# Altium footprint library Miscellaneous Devices LC.PcbLib: 559 footprints (part 10 of 35)
Each footprint in its own frame and in the unit in brackets; x right, y up, seen from the top. Pads: shape width x height; smd on the part's side, far side on the other; paste and mask are expansions set on the pad; w line width, h text height; cw(c..) or ccw(c..) is an arc to the next point about the centre after c.
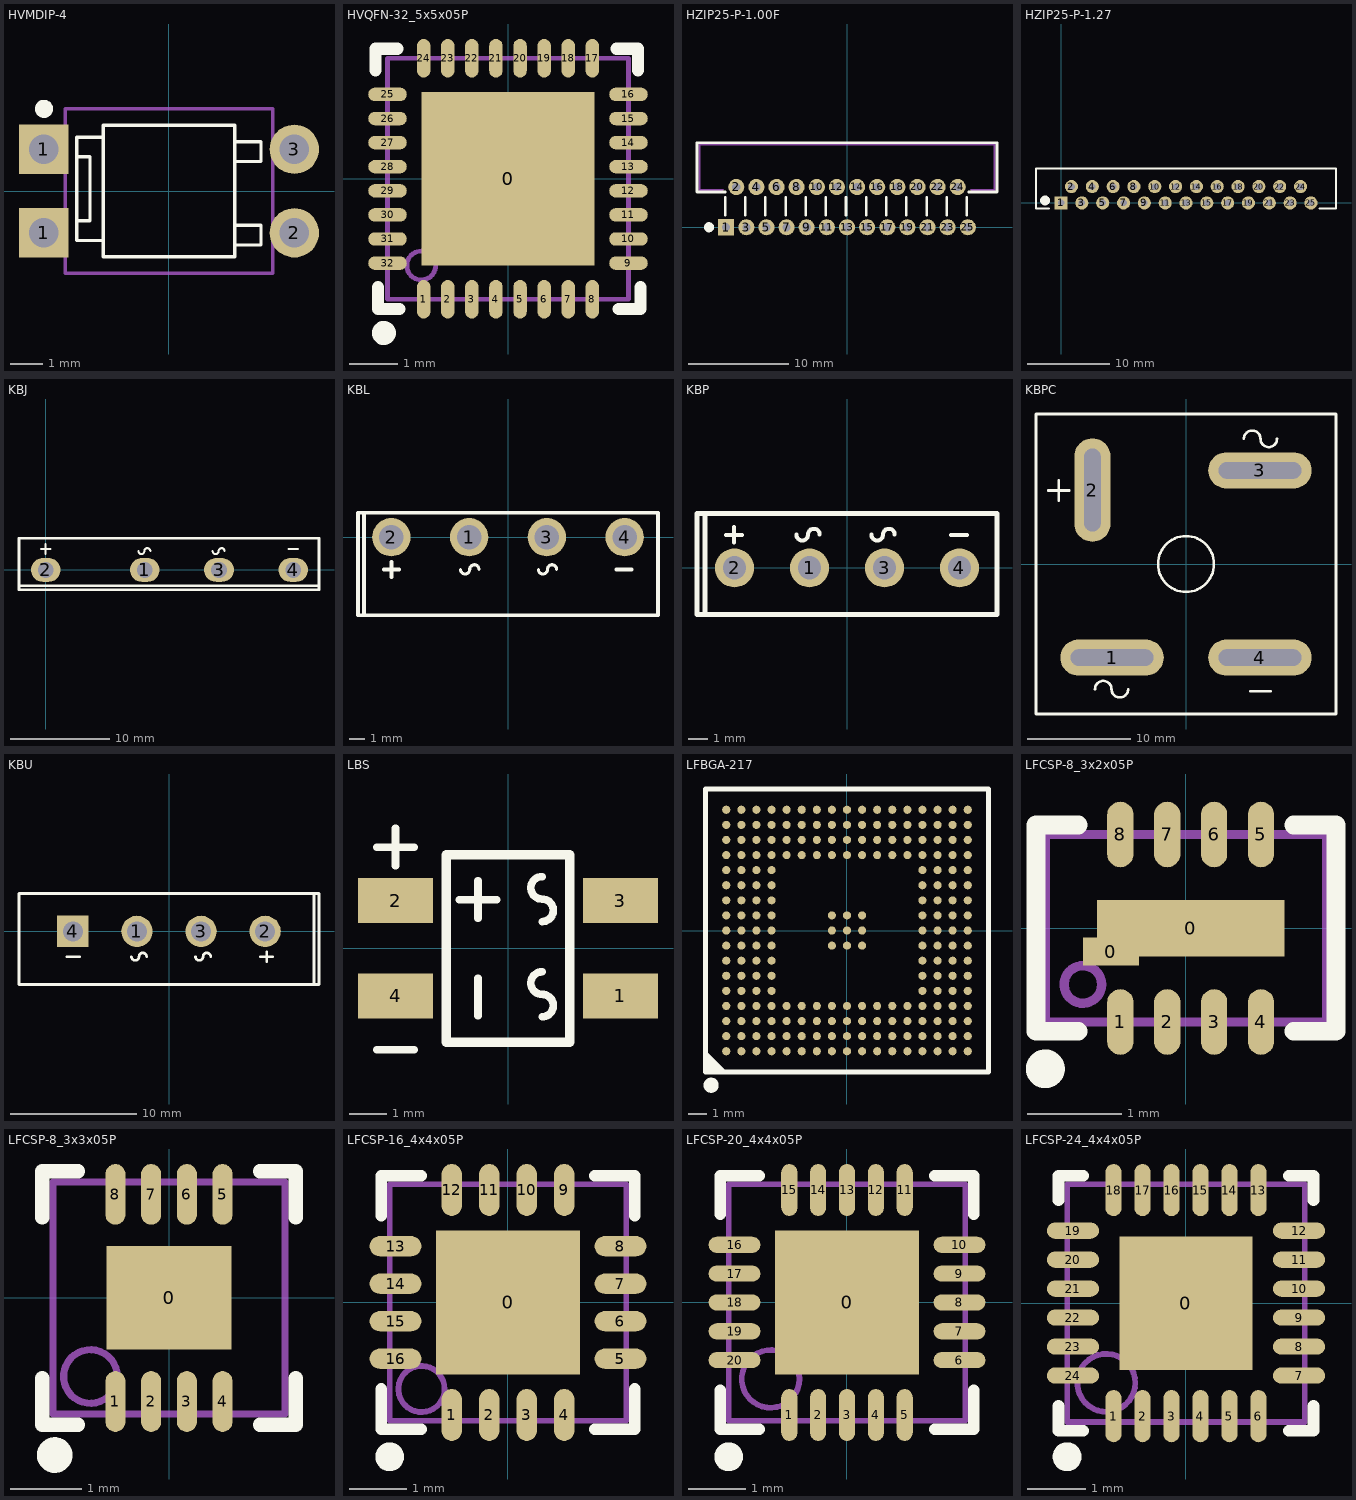
[diagram p9: the footprints below, top view; thin cyan lines are the x and y axes]

## HVMDIP-4 [mm]
pads (4):
  rect 1.5x1.5 hole 0.9: 1(-3.81,-1.27) 1(-3.81,1.27)
  round 1.5 hole 0.9: 2(3.81,-1.27) 3(3.81,1.27)
Top Overlay:
  circle w0.3: c-3.8,2.5 r0.125
  lines w0.1: -2,-1.5 -2.8,-1.5 -2.8,-0.9 ; -2,1.64 -2.8,1.64 -2.8,1.04 ; 2,-1.64 2.8,-1.64 2.8,-1.04 2,-1.04 ; 2,0.9 2.8,0.9 2.8,1.5 2,1.5 ; -2.8,-0.9 -2.8,1.04 ; -2.8,-0.9 -2.4,-0.9 -2.4,1.04 -2.8,1.04 ; -2,-2 2,-2 2,2 -2,2 -2,-2
Mechanical 13:
  lines w0.1: -3.15,-2.5 -3.15,2.5 3.15,2.5 3.15,-2.5 -3.15,-2.5

## HVQFN-32_5x5x05P [mm]
pads (33):
  rect 3.6x3.6 smd mask+0.051: 0(0,0)
  oval 0.28x0.8 smd mask+0.051: 1(-1.75,-2.5) 2(-1.25,-2.5) 3(-0.75,-2.5) 4(-0.25,-2.5) 5(0.25,-2.5) 6(0.75,-2.5) 7(1.25,-2.5) 8(1.75,-2.5) 17(1.75,2.5) 18(1.25,2.5) 19(0.75,2.5) 20(0.25,2.5) 21(-0.25,2.5) 22(-0.75,2.5) 23(-1.25,2.5) 24(-1.75,2.5)
  oval 0.8x0.28 smd mask+0.051: 9(2.5,-1.75) 10(2.5,-1.25) 11(2.5,-0.75) 12(2.5,-0.25) 13(2.5,0.25) 14(2.5,0.75) 15(2.5,1.25) 16(2.5,1.75) 25(-2.5,1.75) 26(-2.5,1.25) 27(-2.5,0.75) 28(-2.5,0.25) 29(-2.5,-0.25) 30(-2.5,-0.75) 31(-2.5,-1.25) 32(-2.5,-1.75)
Top Overlay:
  circle w0.25: c-2.575,-3.2 r0.125
  lines w0.254: -2.75,2.25 -2.75,2.7 -2.3,2.7 ; -2.7,-2.25 -2.7,-2.7 -2.25,-2.7 ; 2.25,2.7 2.7,2.7 2.7,2.25 ; 2.3,-2.7 2.75,-2.7 2.75,-2.25
Mechanical 13:
  circle w0.1: c-1.8,-1.8 r0.3
  lines w0.1: -2.5,-2.5 2.5,-2.5 2.5,2.5 -2.5,2.5 -2.5,-2.5

## HZIP25-P-1.00F [mm] "Stepping Motor Driver IC"
pads (25):
  rect 1.6x1.6 hole 0.8: 1(-12,0)
  round 1.6 hole 0.8: 2(-11,4) 3(-10,0) 4(-9,4) 5(-8,0) 6(-7,4) 7(-6,0) 8(-5,4) 9(-4,0) 10(-3,4) 11(-2,0) 12(-1,4) 13(0,0) 14(1,4) 15(2,0) 16(3,4) 17(4,0) 18(5,4) 19(6,0) 20(7,4) 21(8,0) 22(9,4) 23(10,0) 24(11,4) 25(12,0)
Top Overlay:
  circle w0.5: c-13.7,0 r0.25
  lines w0.254: -12.1,3.5 -14.9,3.5 -14.9,8.4 14.9,8.4 14.9,3.5 12.1,3.5 ; -10.1,1.2 -10.1,3 ; -8.1,1.2 -8.1,3 ; -6.1,1.2 -6.1,3 ; -4.1,1.2 -4.1,3 ; -2.1,1.2 -2.1,3 ; -0.1,1.2 -0.1,3 ; 1.9,1.2 1.9,3 ; 3.9,1.2 3.9,3 ; 5.9,1.2 5.9,3 ; 7.9,1.2 7.9,3 ; 9.9,1.2 9.9,3 ; 11.9,1.2 11.9,3 ; -12.1,1.2 -12.1,3 -12.1,1.2
Mechanical 13:
  lines w0.2: -12.3,3.7 -14.65,3.7 -14.65,8.2 14.65,8.2 14.65,3.7 12.3,3.7

## HZIP25-P-1.27 [mm] "Stepping Motor Driver IC"
pads (25):
  rect 1.6x1.6 hole 0.8: 1(0,0)
  round 1.6 hole 0.8: 2(1.27,2) 3(2.54,0) 4(3.81,2) 5(5.08,0) 6(6.35,2) 7(7.62,0) 8(8.89,2) 9(10.16,0) 10(11.43,2) 11(12.7,0) 12(13.97,2) 13(15.24,0) 14(16.51,2) 15(17.78,0) 16(19.05,2) 17(20.32,0) 18(21.59,2) 19(22.86,0) 20(24.13,2) 21(25.4,0) 22(26.67,2) 23(27.94,0) 24(29.21,2) 25(30.48,0)
Top Overlay:
  circle w0.6: c-1.96,0.3 r0.3
  lines w0.254: -1.46,-0.7 -3.06,-0.7 -3.06,4.2 33.54,4.2 33.54,-0.7 31.54,-0.7

## KBJ [mm]
pads (4):
  oval 3x2.4 hole 1.6: 1(10,0) 2(0,0) 3(17.5,0) 4(25,0)
Top Overlay:
  lines w0.203: -0.5,2.1 0.5,2.1 ; 0,1.6 0,2.6 ; 9.36,1.9 ccw(c9.66,1.9) 9.96,1.9 cw(c10.26,1.9) 10.56,1.9 ; 16.86,1.9 ccw(c17.16,1.9) 17.46,1.9 cw(c17.76,1.9) 18.06,1.9 ; 24.5,2.1 25.5,2.1
  lines w0.254: -2.7,-1.6 27.6,-1.6 ; -2.7,-2 27.6,-2 27.6,3.2 -2.7,3.2 -2.7,-2

## KBL [mm]
pads (4):
  round 2.5 hole 1.6: 1(-2.54,0) 2(-7.62,0) 3(2.54,0) 4(7.62,0)
Top Overlay:
  lines w0.203: -3.1,-2.1 ccw(c-2.8,-2.1) -2.5,-2.1 cw(c-2.2,-2.1) -1.9,-2.1 ; 1.98,-2.1 ccw(c2.28,-2.1) 2.58,-2.1 cw(c2.88,-2.1) 3.18,-2.1
  lines w0.254: -9.4,-5.1 -9.4,1.5 ; -8.12,-2.1 -7.12,-2.1 ; -7.62,-2.6 -7.62,-1.6 ; 7.08,-2.1 8.08,-2.1 ; -9.8,-5.1 9.8,-5.1 9.8,1.6 -9.8,1.6 -9.8,-5.1

## KBP [mm]
pads (4):
  round 2 hole 1.2: 1(-1.925,0) 2(-5.775,0) 3(1.925,0) 4(5.775,0)
Top Overlay:
  lines w0.203: -6.2,1.7 -5.4,1.7 ; -5.8,1.3 -5.8,2.1 ; -2.6,1.708 ccw(c-2.3,1.708) -2,1.708 cw(c-1.7,1.708) -1.4,1.708 ; 1.25,1.708 ccw(c1.55,1.708) 1.85,1.708 cw(c2.15,1.708) 2.45,1.708 ; 5.35,1.7 6.15,1.7
  lines w0.254: -7.3,-2.4 -7.3,2.8 ; -7.7,-2.4 7.7,-2.4 7.7,2.8 -7.7,2.8 -7.7,-2.4

## KBPC [mm]
pads (4):
  oval 10x3.5 hole 1.6 slot 8 at 0 deg: 1(-7.15,-9.05) 3(7.15,9.05) 4(7.15,-9.05)
  oval 3.5x10 hole 1.6 slot 8 at 90 deg: 2(-9.05,7.15)
Top Overlay:
  circle w0.254: c0,0 r2.7
  lines w0.254: -13.3,7.1 -11.3,7.1 ; -12.3,6.1 -12.3,8.1 ; -8.8,-12.1 cw(c-8,-12.1) -7.2,-12.1 ccw(c-6.4,-12.1) -5.6,-12.1 ; 5.6,12.1 cw(c6.4,12.1) 7.2,12.1 ccw(c8,12.1) 8.8,12.1 ; 6.2,-12.3 8.2,-12.3 ; -14.5,-14.5 14.5,-14.5 14.5,14.5 -14.5,14.5 -14.5,-14.5

## KBU [mm]
pads (4):
  round 2.5 hole 1.6: 1(-2.54,0) 2(7.62,0) 3(2.54,0)
  rect 2.5x2.5 hole 1.6: 4(-7.62,0)
Top Overlay:
  lines w0.203: -8.1,-2 -7.1,-2 ; -2.98,-2 ccw(c-2.68,-2) -2.38,-2 cw(c-2.08,-2) -1.78,-2 ; 2.1,-2 ccw(c2.4,-2) 2.7,-2 cw(c3,-2) 3.3,-2 ; 7.24,-2 8.24,-2 ; 7.74,-2.4 7.74,-1.6
  lines w0.254: 11.5,-4.2 11.5,3 ; -11.9,-4.2 11.9,-4.2 11.9,3 -11.9,3 -11.9,-4.2

## LBS [mm]
pads (4):
  rect 2x1.2 smd: 1(3,-1.27) 2(-3,1.27) 3(3,1.27) 4(-3,-1.27)
Top Overlay:
  lines w0.203: -3.5,-2.7 -2.5,-2.7 ; -3.5,2.7 -2.5,2.7 ; -3,2.2 -3,3.2 ; -1.3,1.3 -0.3,1.3 ; -0.8,-1.8 -0.8,-0.8 ; -0.8,0.8 -0.8,1.8 ; 0.908,-1.825 ccw(c0.908,-1.525) 0.908,-1.225 cw(c0.908,-0.925) 0.908,-0.625 ; 0.908,0.715 ccw(c0.908,1.015) 0.908,1.315 cw(c0.908,1.615) 0.908,1.915
  lines w0.254: -1.651,-2.5 1.651,-2.5 1.651,2.5 -1.651,2.5 -1.651,-2.5

## LFBGA-217 [mm]
pads (217):
  round 0.43 smd mask+0.051: A1(-6.4,-6.4) A2(-6.4,-5.6) A3(-6.4,-4.8) A4(-6.4,-4) A5(-6.4,-3.2) A6(-6.4,-2.4) A7(-6.4,-1.6) A8(-6.4,-0.8) A9(-6.4,0) A10(-6.4,0.8) A11(-6.4,1.6) A12(-6.4,2.4) A13(-6.4,3.2) A14(-6.4,4) A15(-6.4,4.8) A16(-6.4,5.6) A17(-6.4,6.4) B1(-5.6,-6.4) B2(-5.6,-5.6) B3(-5.6,-4.8) B4(-5.6,-4) B5(-5.6,-3.2) B6(-5.6,-2.4) B7(-5.6,-1.6) B8(-5.6,-0.8) B9(-5.6,0) B10(-5.6,0.8) B11(-5.6,1.6) B12(-5.6,2.4) B13(-5.6,3.2) B14(-5.6,4) B15(-5.6,4.8) B16(-5.6,5.6) B17(-5.6,6.4) C1(-4.8,-6.4) C2(-4.8,-5.6) C3(-4.8,-4.8) C4(-4.8,-4) C5(-4.8,-3.2) C6(-4.8,-2.4) C7(-4.8,-1.6) C8(-4.8,-0.8) C9(-4.8,0) C10(-4.8,0.8) C11(-4.8,1.6) C12(-4.8,2.4) C13(-4.8,3.2) C14(-4.8,4) C15(-4.8,4.8) C16(-4.8,5.6) C17(-4.8,6.4) D1(-4,-6.4) D2(-4,-5.6) D3(-4,-4.8) D4(-4,-4) D5(-4,-3.2) D6(-4,-2.4) D7(-4,-1.6) D8(-4,-0.8) D9(-4,0) D10(-4,0.8) D11(-4,1.6) D12(-4,2.4) D13(-4,3.2) D14(-4,4) D15(-4,4.8) D16(-4,5.6) D17(-4,6.4) E1(-3.2,-6.4) E2(-3.2,-5.6) E3(-3.2,-4.8) E4(-3.2,-4) E14(-3.2,4) E15(-3.2,4.8) E16(-3.2,5.6) E17(-3.2,6.4) F1(-2.4,-6.4) F2(-2.4,-5.6) F3(-2.4,-4.8) F4(-2.4,-4) F14(-2.4,4) F15(-2.4,4.8) F16(-2.4,5.6) F17(-2.4,6.4) G1(-1.6,-6.4) G2(-1.6,-5.6) G3(-1.6,-4.8) G4(-1.6,-4) G14(-1.6,4) G15(-1.6,4.8) G16(-1.6,5.6) G17(-1.6,6.4) H1(-0.8,-6.4) H2(-0.8,-5.6) H3(-0.8,-4.8) H4(-0.8,-4) H8(-0.8,-0.8) H9(-0.8,0) H10(-0.8,0.8) H14(-0.8,4) H15(-0.8,4.8) H16(-0.8,5.6) H17(-0.8,6.4) J1(0,-6.4) J2(0,-5.6) J3(0,-4.8) J4(0,-4) J8(0,-0.8) J9(0,0) J10(0,0.8) J14(0,4) J15(0,4.8) J16(0,5.6) J17(0,6.4) K1(0.8,-6.4) K2(0.8,-5.6) K3(0.8,-4.8) K4(0.8,-4) K8(0.8,-0.8) K9(0.8,0) K10(0.8,0.8) K14(0.8,4) K15(0.8,4.8) K16(0.8,5.6) K17(0.8,6.4) L1(1.6,-6.4) L2(1.6,-5.6) L3(1.6,-4.8) L4(1.6,-4) L14(1.6,4) L15(1.6,4.8) L16(1.6,5.6) L17(1.6,6.4) M1(2.4,-6.4) M2(2.4,-5.6) M3(2.4,-4.8) M4(2.4,-4) M14(2.4,4) M15(2.4,4.8) M16(2.4,5.6) M17(2.4,6.4) N1(3.2,-6.4) N2(3.2,-5.6) N3(3.2,-4.8) N4(3.2,-4) N14(3.2,4) N15(3.2,4.8) N16(3.2,5.6) N17(3.2,6.4) P1(4,-6.4) P2(4,-5.6) P3(4,-4.8) P4(4,-4) P5(4,-3.2) P6(4,-2.4) P7(4,-1.6) P8(4,-0.8) P9(4,0) P10(4,0.8) P11(4,1.6) P12(4,2.4) P13(4,3.2) P14(4,4) P15(4,4.8) P16(4,5.6) P17(4,6.4) R1(4.8,-6.4) R2(4.8,-5.6) R3(4.8,-4.8) R4(4.8,-4) R5(4.8,-3.2) R6(4.8,-2.4) R7(4.8,-1.6) R8(4.8,-0.8) R9(4.8,0) R10(4.8,0.8) R11(4.8,1.6) R12(4.8,2.4) R13(4.8,3.2) R14(4.8,4) R15(4.8,4.8) R16(4.8,5.6) R17(4.8,6.4) T1(5.6,-6.4) T2(5.6,-5.6) T3(5.6,-4.8) T4(5.6,-4) T5(5.6,-3.2) T6(5.6,-2.4) T7(5.6,-1.6) T8(5.6,-0.8) T9(5.6,0) T10(5.6,0.8) T11(5.6,1.6) T12(5.6,2.4) T13(5.6,3.2) T14(5.6,4) T15(5.6,4.8) T16(5.6,5.6) T17(5.6,6.4) U1(6.4,-6.4) U2(6.4,-5.6) U3(6.4,-4.8) U4(6.4,-4) U5(6.4,-3.2) U6(6.4,-2.4) U7(6.4,-1.6) U8(6.4,-0.8) U9(6.4,0) U10(6.4,0.8) U11(6.4,1.6) U12(6.4,2.4) U13(6.4,3.2) U14(6.4,4) U15(6.4,4.8) U16(6.4,5.6) U17(6.4,6.4)
Top Overlay:
  circle w0.4: c-7.2,-8.2 r0.2
  region: -7.5,-6.5 -6.5,-7.5 -7.5,-7.5
  lines w0.2: -7.5,-6.5 -6.5,-7.5
  lines w0.254: -7.5,-7.5 -7.5,7.5 7.5,7.5 7.5,-7.5 -7.5,-7.5
Mechanical 13:
  lines w0.1: -7.5,-7.5 -7.5,7.5 7.5,7.5 7.5,-7.5 -7.5,-7.5

## LFCSP-8_3x2x05P [mm]
pads (10):
  rect 0.6x0.3 smd mask+0.051: 0(-0.8,-0.25)
  rect 2x0.6 smd mask+0.051: 0(0.05,0)
  oval 0.28x0.7 smd mask+0.051: 1(-0.7,-1) 2(-0.2,-1) 3(0.3,-1) 4(0.8,-1) 5(0.8,1) 6(0.3,1) 7(-0.2,1) 8(-0.7,1)
Top Overlay:
  circle w0.254: c-1.5,-1.5 r0.08
  lines w0.2: -1.15,-1.1 -1.6,-1.1 -1.6,1.1 -1.15,1.1 ; 1.15,-1.1 1.6,-1.1 1.6,1.1 1.15,1.1
Mechanical 13:
  circle w0.1: c-1.1,-0.6 r0.2
  lines w0.1: -1.5,-1 1.5,-1 1.5,1 -1.5,1 -1.5,-1

## LFCSP-8_3x3x05P [mm]
pads (9):
  rect 1.75x1.45 smd mask+0.051: 0(0,0)
  oval 0.28x0.85 smd mask+0.051: 1(-0.75,-1.45) 2(-0.25,-1.45) 3(0.25,-1.45) 4(0.75,-1.45) 5(0.75,1.45) 6(0.25,1.45) 7(-0.25,1.45) 8(-0.75,1.45)
Top Overlay:
  circle w0.25: c-1.6,-2.2 r0.125
  lines w0.2: -1.775,-1.125 -1.775,-1.775 -1.275,-1.775 ; -1.775,1.125 -1.775,1.775 -1.275,1.775 ; 1.275,-1.775 1.775,-1.775 1.775,-1.125 ; 1.275,1.775 1.775,1.775 1.775,1.125
Mechanical 13:
  circle w0.1: c-1.1,-1.1 r0.376
  lines w0.1: -1.625,-1.625 1.625,-1.625 1.625,1.625 -1.625,1.625 -1.625,-1.625

## LFCSP-16_4x4x05P [mm]
pads (18):
  rect 2.5x2.5 smd paste-1.225 mask+0.051: 0(0,0)
  oval 0.35x0.9 smd mask+0.051: 1(-0.975,-1.95) 2(-0.325,-1.95) 3(0.325,-1.95) 4(0.975,-1.95) 9(0.975,1.95) 10(0.325,1.95) 11(-0.325,1.95) 12(-0.975,1.95)
  oval 0.9x0.35 smd mask+0.051: 5(1.95,-0.975) 6(1.95,-0.325) 7(1.95,0.325) 8(1.95,0.975) 13(-1.95,0.975) 14(-1.95,0.325) 15(-1.95,-0.325) 16(-1.95,-0.975)
  rect 2.5x2.5 smd mask+0.051: ""(0,0)
Top Overlay:
  circle w0.25: c-2.05,-2.675 r0.125
  lines w0.2: -2.2,-1.5 -2.2,-2.2 -1.5,-2.2 ; -2.2,1.5 -2.2,2.2 -1.5,2.2 ; 1.5,-2.2 2.2,-2.2 2.2,-1.5 ; 1.5,2.2 2.2,2.2 2.2,1.5
Mechanical 13:
  circle w0.1: c-1.5,-1.5 r0.4
  lines w0.1: -2.05,-2.05 2.05,-2.05 2.05,2.05 -2.05,2.05 -2.05,-2.05

## LFCSP-20_4x4x05P [mm]
pads (21):
  rect 2.5x2.5 smd mask+0.051: 0(0,0)
  oval 0.28x0.9 smd mask+0.051: 1(-1,-1.95) 2(-0.5,-1.95) 3(0,-1.95) 4(0.5,-1.95) 5(1,-1.95) 11(1,1.95) 12(0.5,1.95) 13(0,1.95) 14(-0.5,1.95) 15(-1,1.95)
  oval 0.9x0.28 smd mask+0.051: 6(1.95,-1) 7(1.95,-0.5) 8(1.95,0) 9(1.95,0.5) 10(1.95,1) 16(-1.95,1) 17(-1.95,0.5) 18(-1.95,0) 19(-1.95,-0.5) 20(-1.95,-1)
Top Overlay:
  circle w0.25: c-2.05,-2.675 r0.125
  lines w0.2: -2.2,-1.525 -2.2,-2.2 -1.525,-2.2 ; -2.2,1.525 -2.2,2.2 -1.525,2.2 ; 1.525,-2.2 2.2,-2.2 2.2,-1.525 ; 1.525,2.2 2.2,2.2 2.2,1.525
Mechanical 13:
  circle w0.1: c-1.325,-1.325 r0.5
  lines w0.1: -2.05,-2.05 -2.05,2.05 2.05,2.05 2.05,-2.05 -2.05,-2.05

## LFCSP-24_4x4x05P [mm]
pads (26):
  rect 2.3x2.3 smd paste-1.05 mask+0.051: 0(0,0)
  oval 0.28x0.9 smd mask+0.051: 1(-1.25,-1.95) 2(-0.75,-1.95) 3(-0.25,-1.95) 4(0.25,-1.95) 5(0.75,-1.95) 6(1.25,-1.95) 13(1.25,1.95) 14(0.75,1.95) 15(0.25,1.95) 16(-0.25,1.95) 17(-0.75,1.95) 18(-1.25,1.95)
  oval 0.9x0.28 smd mask+0.051: 7(1.95,-1.25) 8(1.95,-0.75) 9(1.95,-0.25) 10(1.95,0.25) 11(1.95,0.75) 12(1.95,1.25) 19(-1.95,1.25) 20(-1.95,0.75) 21(-1.95,0.25) 22(-1.95,-0.25) 23(-1.95,-0.75) 24(-1.95,-1.25)
  rect 2.3x2.3 smd mask+0.051: ""(0,0)
Top Overlay:
  circle w0.25: c-2.05,-2.65 r0.125
  lines w0.2: -2.2,-1.775 -2.2,-2.2 -1.775,-2.2 ; -2.2,1.775 -2.2,2.2 -1.775,2.2 ; 1.775,-2.2 2.2,-2.2 2.2,-1.775 ; 1.775,2.2 2.2,2.2 2.2,1.775
Mechanical 13:
  circle w0.1: c-1.375,-1.375 r0.5
  lines w0.1: -2.05,-2.05 -2.05,2.05 2.05,2.05 2.05,-2.05 -2.05,-2.05